# EAGLE library part CH340K (library FlukeNic)
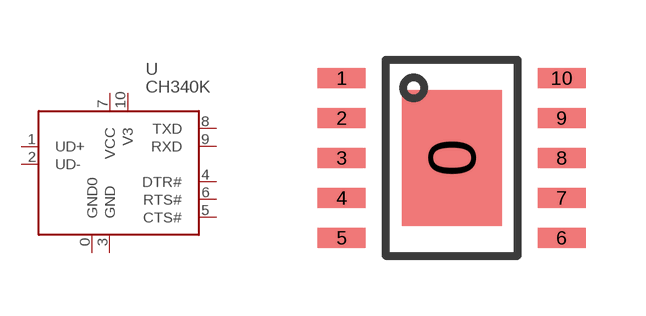
[diagram p4: symbol with the pads of ESSOP10; footprint ESSOP10]

Designator prefix U

## CH340K  [ESSOP10]
0  GND0  pwr
1  UD+
2  UD-
3  GND  pwr
4  DTR#  out
5  CTS#  in
6  RTS#  out
7  VCC  pwr
8  TXD  out
9  RXD  in
10  V3  pwr

## Footprint ESSOP10 (pad centres in mm)
smd 2.5 x 3.4: 0 0,0
smd 1.2 x 0.5: 1 -2.75,2; 2 -2.75,1; 3 -2.75,0; 4 -2.75,-1; 5 -2.75,-2; 6 2.75,-2; 7 2.75,-1; 8 2.75,0; 9 2.75,1; 10 2.75,2